# Altium integrated library ECS-120-S-4.IntLib: 1 symbol
Pins are listed as number, name and electrical type; pins without a type are passive.

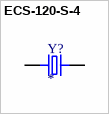
[diagram p0: symbol ECS-120-S-4]

## ECS-120-S-4
designator Y?
MP: ECS-120-S-4; Package: None; Price: None; Value: *; Availability: Unavailable
footprint XTAL_ECS-120-S-4
pins: 1, 2